# Altium footprint library PcbLib2.PcbLib: 34 footprints (part 2 of 3)
Each footprint in its own frame and in the unit in brackets; x right, y up, seen from the top. Pads: shape width x height; smd on the part's side, far side on the other; paste and mask are expansions set on the pad; w line width, h text height; cw(c..) or ccw(c..) is an arc to the next point about the centre after c.
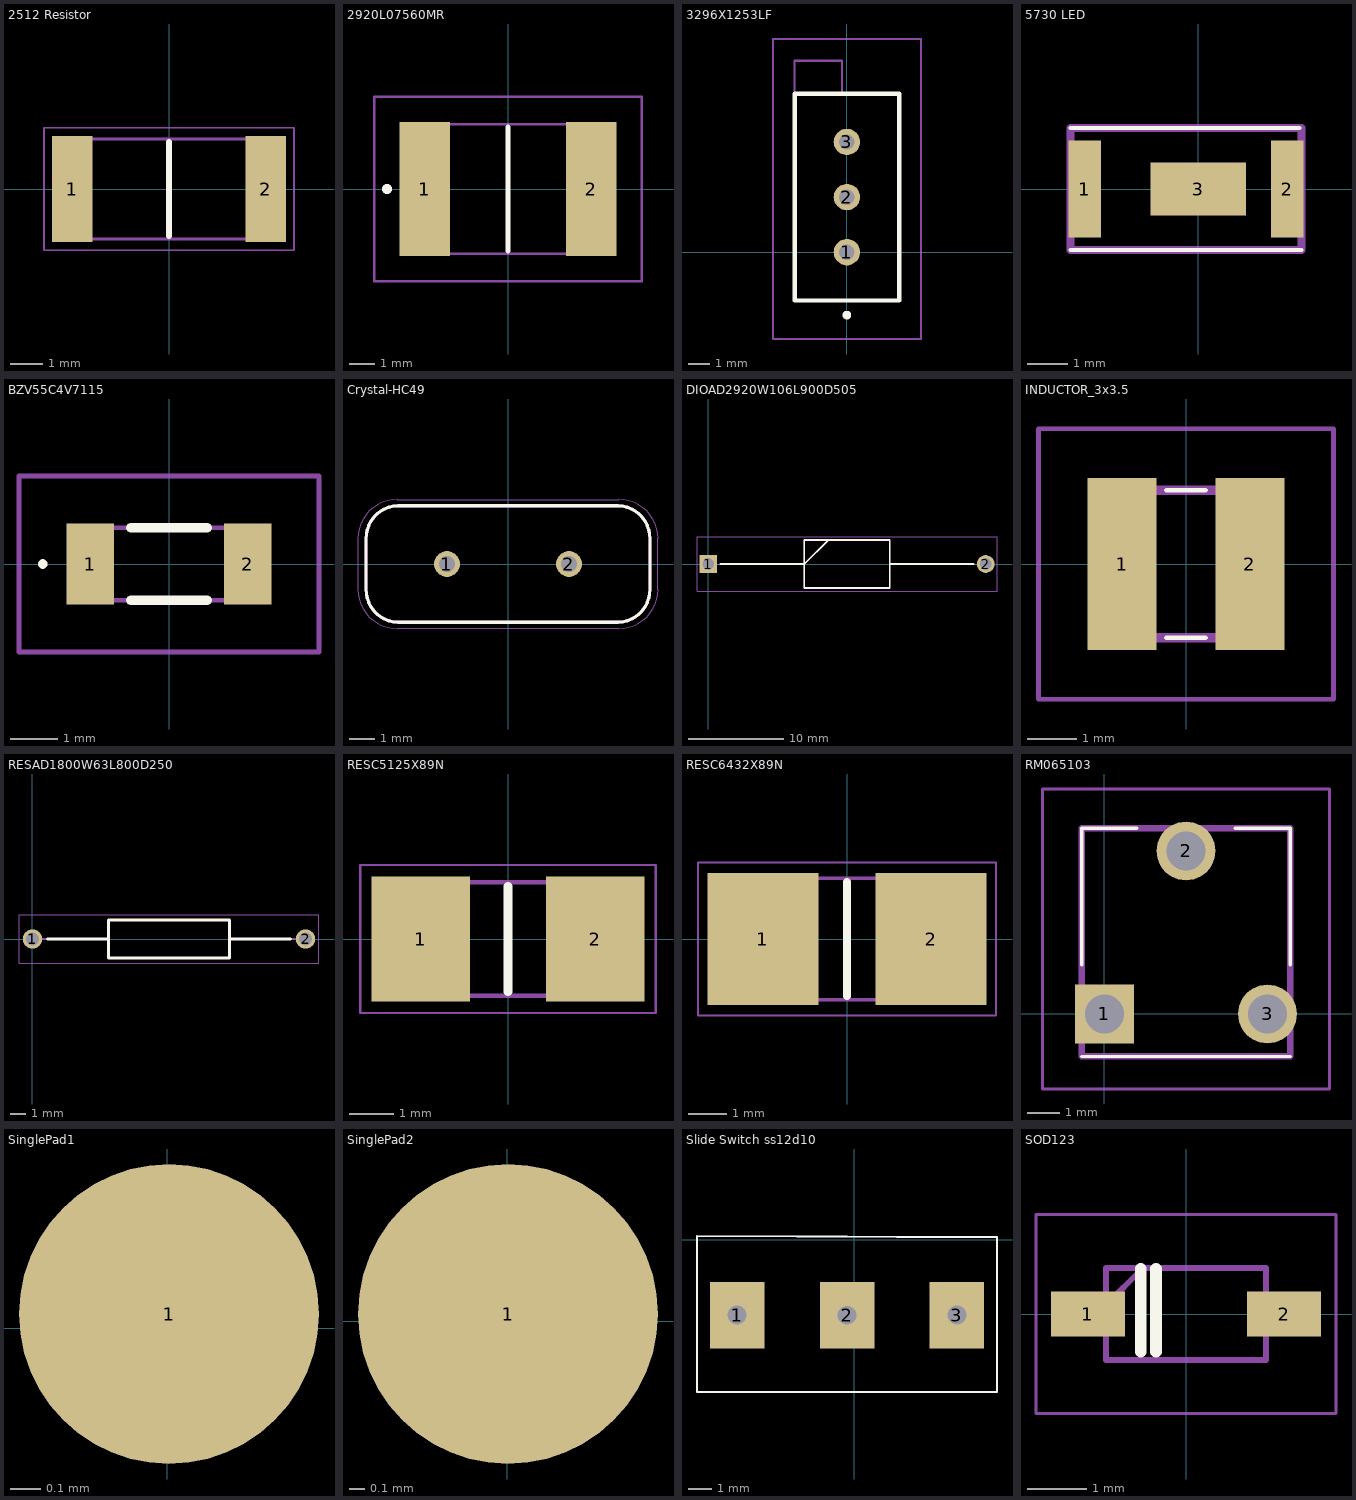
[diagram p1: the footprints below, top view; thin cyan lines are the x and y axes]

## 2512 Resistor [mm]
pads (2):
  rect 1.25x3.3 smd: 1(-3,0) 2(3,0)
Top Overlay:
  lines w0.2: 0,-1.45 0,1.45
Mechanical 13:
  lines w0.1: -3.15,-1.55 3.15,-1.55 3.15,1.55 -3.15,1.55 -3.15,-1.55
Mechanical 15:
  lines w0.05: -3.875,-1.9 3.875,-1.9 3.875,1.9 -3.875,1.9 -3.875,-1.9
3D body "CR2512-F_-1R00ELF.stp": height 0.75, standoff 0, extent -3.15,-1.55 3.15,1.55

## 2920L07560MR [mm]
pads (2):
  rect 2x5.3 smd: 1(-3.3,0) 2(3.3,0)
Top Overlay:
  lines w0.2: 0,-2.46 0,2.46 ; -4.8,-0.1 ccw(c-4.8,0) -4.8,0.1 ccw(c-4.8,0) -4.8,-0.1
Mechanical 13:
  lines w0.1: -3.678,-2.56 -3.678,2.56 3.678,2.56 3.678,-2.56 -3.678,-2.56
Mechanical 15:
  lines w0.1: -5.3,-3.65 -5.3,3.65 5.3,3.65 5.3,-3.65 -5.3,-3.65
3D body "2920L500_16.stp": height 1.52, standoff 0, extent -3.937,-2.667 3.937,2.667

## 3296X1253LF [mm]
pads (3):
  round 1.217 hole 0.71: 1(0,0) 2(0,2.54) 3(0,5.08)
Top Overlay:
  lines w0.2: -2.41,-2.225 2.42,-2.225 2.42,7.305 -2.41,7.305 -2.41,-2.225 ; 0,-3 cw(c0,-2.9) 0,-2.8 cw(c0,-2.9) 0,-3
Mechanical 13:
  lines w0.1: -2.41,7.305 2.42,7.305 2.42,-2.225 -2.41,-2.225 -2.41,7.305 ; -2.41,7.305 -0.22,7.305 -0.22,8.825 -2.41,8.825 -2.41,7.305
Mechanical 15:
  lines w0.1: -3.41,-4 3.42,-4 3.42,9.825 -3.41,9.825 -3.41,-4
3D body "3296X-1-253LF.stp": height 10.38, standoff -5, extent -2.41,-2.225 2.42,8.825

## 5730 LED [mm]
pads (3):
  rect 0.8x2.4 smd: 1(-2.8,0) 2(2.2,0)
  rect 2.36x1.3 smd: 3(0,0)
Top Overlay:
  lines w0.1: -3.15,-1.5 2.55,-1.5 -3.15,-1.5 ; -3.15,1.5 2.5,1.5 -3.15,1.5
Mechanical 13:
  lines w0.2: -3.15,-1.5 2.55,-1.5 2.55,1.5 -3.15,1.5 -3.15,-1.5
3D body "HL-A-5730D34W-S1-08-HR3_LY_.stp": height 0.9, standoff 0, extent -3.15,-1.5 2.55,1.5

## BZV55C4V7115 [mm]
pads (2):
  rect 1x1.7 smd: 1(-1.65,0) 2(1.65,0)
Top Overlay:
  lines w0.1: -2.7,0 ccw(c-2.65,0) -2.6,0 ccw(c-2.65,0) -2.7,0
  lines w0.2: -0.8,-0.762 0.8,-0.762 ; -0.8,0.762 0.8,0.762
Mechanical 13:
  lines w0.1: -1.75,-0.762 1.75,-0.762 1.75,0.762 -1.75,0.762 -1.75,-0.762
Mechanical 15:
  lines w0.1: -3.15,-1.85 3.15,-1.85 3.15,1.85 -3.15,1.85 -3.15,-1.85

## Crystal-HC49 [mm]
pads (2):
  round 1.03 hole 0.63: 1(-2.44,0) 2(2.44,0)
Top Overlay:
  lines w0.127: -5.675,-1.012 ccw(c-4.38,-1.035) -4.403,-2.33 ; -5.675,-1.01 -5.675,1.01 ; -5.675,1.012 cw(c-4.38,1.035) -4.403,2.33 ; -4.405,-2.33 4.405,-2.33 ; -4.405,2.33 4.405,2.33 ; 4.403,-2.33 ccw(c4.38,-1.035) 5.675,-1.012 ; 4.403,2.33 cw(c4.38,1.035) 5.675,1.012 ; 5.675,-1.01 5.675,1.01
Mechanical 13:
  lines w0.127: -5.675,-1.012 ccw(c-4.38,-1.035) -4.403,-2.33 ; -5.675,-1.01 -5.675,1.01 ; -5.675,1.012 cw(c-4.38,1.035) -4.403,2.33 ; -4.405,-2.33 4.405,-2.33 ; -4.405,2.33 4.405,2.33 ; 4.403,-2.33 ccw(c4.38,-1.035) 5.675,-1.012 ; 4.403,2.33 cw(c4.38,1.035) 5.675,1.012 ; 5.675,-1.01 5.675,1.01
Mechanical 15:
  lines w0.05: -6,-1.01 ccw(c-4.43,-1.01) -4.43,-2.58 4.43,-2.58 ccw(c4.43,-1.01) 6,-1.01 6,1.01 ccw(c4.43,1.01) 4.43,2.58 -4.43,2.58 ccw(c-4.43,1.01) -6,1.01 -6,-1.01
3D body "User Library-HC-49_LT_THT_16MHz.STEP": height 1.49, standoff -4.1, extent -5.675,-2.325 5.675,2.325

## DIOAD2920W106L900D505 [mm]
pads (2):
  rect 1.875x1.875 hole 1.25: 1(0,0)
  round 1.875 hole 1.25: 2(29.2,0)
Top Overlay:
  lines w0.2: 1.288,0 10.1,0 12.625,2.525 ; 19.1,0 27.912,0 ; 10.1,-2.525 10.1,2.525 19.1,2.525 19.1,-2.525 10.1,-2.525
Mechanical 13:
  lines w0.1: 0,0 10.1,0 12.625,2.525 ; 19.1,0 29.2,0 ; 10.1,-2.525 10.1,2.525 19.1,2.525 19.1,-2.525 10.1,-2.525
Mechanical 15:
  lines w0.05: -1.188,-2.875 -1.188,2.875 30.387,2.875 30.387,-2.875 -1.188,-2.875
3D body "1.5KE10A.stp": height 5.39, standoff -2.09, extent -0.505,-2.521 29.705,2.521

## INDUCTOR_3x3.5 [mm]
pads (2):
  rect 1.4x3.5 smd: 1(-1.3,0) 2(1.3,0)
Top Overlay:
  lines w0.1: -0.4,-1.5 0.4,-1.5 ; -0.4,1.5 0.4,1.5
Mechanical 13:
  lines w0.2: -1.75,-1.5 1.75,-1.5 1.75,1.5 -1.75,1.5 -1.75,-1.5
Mechanical 15:
  lines w0.1: -3,-2.75 3,-2.75 3,2.75 -3,2.75 -3,-2.75

## RESAD1800W63L800D250 [mm]
pads (2):
  round 1.275 hole 0.85: 1(0,0) 2(18,0)
Top Overlay:
  lines w0.2: 0.988,0 5,0 ; 13,0 17.012,0 ; 5,-1.25 5,1.25 13,1.25 13,-1.25 5,-1.25
Mechanical 13:
  lines w0.1: 0,0 5,0 ; 13,0 18,0 ; 5,-1.25 5,1.25 13,1.25 13,-1.25 5,-1.25
Mechanical 15:
  lines w0.05: -0.888,-1.6 -0.888,1.6 18.887,1.6 18.887,-1.6 -0.888,-1.6
3D body "PR01000101203JA100.stp": height 2.5, standoff 0, extent 0,-1.241 18,1.241

## RESC5125X89N [mm]
pads (2):
  rect 2.2x2.8 smd: 1(-1.95,0) 2(1.95,0)
Top Overlay:
  lines w0.2: 0,-1.17 0,1.17
Mechanical 13:
  lines w0.1: -2.54,-1.27 -2.54,1.27 2.54,1.27 2.54,-1.27 -2.54,-1.27
Mechanical 15:
  lines w0.05: -3.3,-1.65 -3.3,1.65 3.3,1.65 3.3,-1.65 -3.3,-1.65
3D body "WSL2010R0130FEA18.stp": height 0.64, standoff 0, extent -2.54,-1.27 2.54,1.27

## RESC6432X89N [mm]
pads (2):
  rect 2.9x3.45 smd: 1(-2.2,0) 2(2.2,0)
Top Overlay:
  lines w0.2: 0,-1.49 0,1.49
Mechanical 13:
  lines w0.1: -3.175,-1.59 -3.175,1.59 3.175,1.59 3.175,-1.59 -3.175,-1.59
Mechanical 15:
  lines w0.05: -3.9,-2 -3.9,2 3.9,2 3.9,-2 -3.9,-2
3D body "WSL25121L000FEK18.stp": height 0.64, standoff 0, extent -3.175,-1.59 3.175,1.59

## RM065103 [mm]
pads (3):
  rect 1.8x1.8 hole 1.2: 1(0,0)
  round 1.8 hole 1.2: 2(2.5,5) 3(5,0)
Top Overlay:
  lines w0.1: -0.7,-1.3 5.7,-1.3 ; -0.7,1.5 -0.7,5.7 1,5.7 ; 4,5.7 5.7,5.7 5.7,1.5
Mechanical 13:
  lines w0.2: -0.7,-1.3 -0.7,5.7 5.7,5.7 5.7,-1.3 -0.7,-1.3
Mechanical 15:
  lines w0.1: -1.9,-2.3 -1.9,6.9 6.9,6.9 6.9,-2.3 -1.9,-2.3
3D body "RM-065-103.stp": height 7.6, standoff -5, extent -0.7,-1.3 5.7,5.7

## SinglePad1 [mm]
pads (1):
  round 1 smd mask+0.102: 1(0.006,0.047)

## SinglePad2 [mm]
pads (1):
  round 2 smd mask+0.102: 1(0.006,0.047)

## Slide Switch ss12d10 [mm]
pads (3):
  rect 2.3x2.8 hole 0.8 square: 1(-4.95,-3.2) 2(-0.294,-3.204) 3(4.35,-3.2)
Top Overlay:
  lines w0.1: -5.4,-2.6 -5.4,-3.85 -4.6,-3.85 -4.6,-2.55 -5.4,-2.55 ; -0.7,-2.6 -0.7,-3.85 0.1,-3.85 0.1,-2.55 -0.7,-2.55 ; -0.3,-6.45 -6.65,-6.45 ; 4,-2.6 4,-3.85 4.8,-3.85 4.8,-2.55 4,-2.55 ; 6.05,-3.2 6.05,0.1 -6.65,0.15 -6.65,-6.45 ; 6.05,0.05 6.05,-6.45 -6.65,-6.45

## SOD123 [mm]
pads (2):
  rect 1.25x0.75 smd: 1(-1.65,0) 2(1.65,0)
Top Overlay:
  lines w0.2: -0.762,-0.635 -0.762,0.762 ; -0.508,-0.635 -0.508,0.762
Mechanical 13:
  lines w0.1: -1.35,0.15 -0.725,0.775 ; -1.35,-0.775 1.35,-0.775 1.35,0.775 -1.35,0.775 -1.35,-0.775
Mechanical 15:
  lines w0.05: -2.525,-1.675 2.525,-1.675 2.525,1.675 -2.525,1.675 -2.525,-1.675
3D body "1N4148W-G3-08.stp": height 1.35, standoff 0, extent -1.85,-0.775 1.85,0.775